# Altium schematic symbol library Power.SchLib: 2 symbols
Pins are listed as number, name and electrical type; pins without a type are passive.

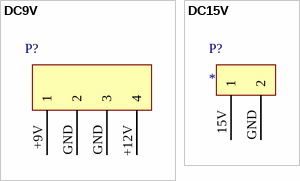
[diagram p0: symbols DC9V to DC15V]

## DC9V
designator P?
pins: +9V 1 (power), +12V 4 (power), GND 2 (power), GND 3 (power)

## DC15V
designator P?
pins: 15V 1 (power), GND 2 (power)